# Altium footprint library LGA_GE310.PcbLib: 1 footprints
Each footprint in its own frame and in the unit in brackets; x right, y up, seen from the top. Pads: shape width x height; smd on the part's side, far side on the other; paste and mask are expansions set on the pad; w line width, h text height; cw(c..) or ccw(c..) is an arc to the next point about the centre after c.
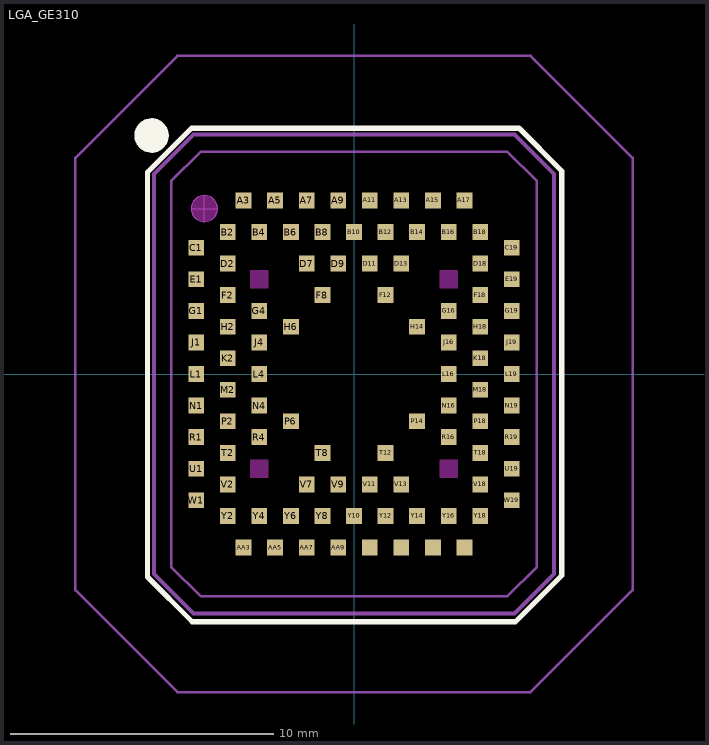
[diagram p0: the footprint, top view; thin cyan lines are the x and y axes]

## LGA_GE310 [mm] "GE310-GNSS LGA 18.20 x 15.20 mm"
height 2.6
pads (94):
  rect 0.6x0.6 smd: A3(-4.2,6.6) A5(-3,6.6) A7(-1.8,6.6) A9(-0.6,6.6) A11(0.6,6.6) A13(1.8,6.6) A15(3,6.6) A17(4.2,6.6) AA3(-4.2,-6.6) AA5(-3,-6.6) AA7(-1.8,-6.6) AA9(-0.6,-6.6) AA11(0.6,-6.6) AA13(1.8,-6.6) AA15(3,-6.6) AA17(4.2,-6.6) B2(-4.8,5.4) B4(-3.6,5.4) B6(-2.4,5.4) B8(-1.2,5.4) B10(0,5.4) B12(1.2,5.4) B14(2.4,5.4) B16(3.6,5.4) B18(4.8,5.4) C1(-6,4.8) C19(6,4.8) D2(-4.8,4.2) D7(-1.8,4.2) D9(-0.6,4.2) D11(0.6,4.2) D13(1.8,4.2) D18(4.8,4.2) E1(-6,3.6) E19(6,3.6) F2(-4.8,3) F8(-1.2,3) F12(1.2,3) F18(4.8,3) G1(-6,2.4) G4(-3.6,2.4) G16(3.6,2.4) G19(6,2.4) H2(-4.8,1.8) H6(-2.4,1.8) H14(2.4,1.8) H18(4.8,1.8) J1(-6,1.2) J4(-3.6,1.2) J16(3.6,1.2) J19(6,1.2) K2(-4.8,0.6) K18(4.8,0.6) L1(-6,0) L4(-3.6,0) L16(3.6,0) L19(6,0) M2(-4.8,-0.6) M18(4.8,-0.6) N1(-6,-1.2) N4(-3.6,-1.2) N16(3.6,-1.2) N19(6,-1.2) P2(-4.8,-1.8) P6(-2.4,-1.8) P14(2.4,-1.8) P18(4.8,-1.8) R1(-6,-2.4) R4(-3.6,-2.4) R16(3.6,-2.4) R19(6,-2.4) T2(-4.8,-3) T8(-1.2,-3) T12(1.2,-3) T18(4.8,-3) U1(-6,-3.6) U19(6,-3.6) V2(-4.8,-4.2) V7(-1.8,-4.2) V9(-0.6,-4.2) V11(0.6,-4.2) V13(1.8,-4.2) V18(4.8,-4.2) W1(-6,-4.8) W19(6,-4.8) Y2(-4.8,-5.4) Y4(-3.6,-5.4) Y6(-2.4,-5.4) Y8(-1.2,-5.4) Y10(0,-5.4) Y12(1.2,-5.4) Y14(2.4,-5.4) Y16(3.6,-5.4) Y18(4.8,-5.4)
Top Layer keep-out:
  rectangle: -3.95,3.25 -3.25,3.95
  rectangle: 3.25,3.25 3.95,3.95
  rectangle: 3.25,-3.95 3.95,-3.25
  rectangle: -3.95,-3.95 -3.25,-3.25
  region: -6.19,6.29 -6.19,6.389 -6.114,6.573 -5.973,6.714 -5.789,6.79 -5.69,6.79 -5.591,6.79 -5.407,6.714 -5.266,6.573 -5.19,6.389 -5.19,6.29 -5.19,6.191 -5.266,6.007 -5.407,5.866 -5.591,5.79 -5.69,5.79 -5.789,5.79 -5.973,5.866 -6.114,6.007 -6.19,6.191
Top Overlay:
  circle w0.254: c-7.7,9.07 r0.53
  region: -8.139,9.431 -7.94,9.63 -7.46,9.63 -7.17,9.34 -7.17,8.81 -7.43,8.55 -7.97,8.55 -8.23,8.81 -8.23,9.221
  lines w0.2: -7.85,-7.72 -7.85,7.67 -6.17,9.35 6.27,9.35 7.9,7.72 7.9,-7.66 6.14,-9.42 -6.15,-9.42 -7.85,-7.72
Keep-Out Layer:
  region: -6,6.68
Mechanical 1:
  circle w0.01: c-5.69,6.29 r0.5
  lines w0.01: -6.19,6.29 -5.69,6.29 ; -5.69,5.79 -5.69,6.29 ; -5.69,6.79 -5.69,6.29 ; -5.19,6.29 -5.69,6.29
  lines w0.1: -6.95,-7.331 -6.95,7.331 -5.831,8.45 0,8.45 5.831,8.45 6.95,7.331 6.95,-7.331 5.831,-8.45 -5.831,-8.45 -6.95,-7.331
  lines w0.15: -7.6,-7.6 -6.1,-9.1 6.1,-9.1 7.6,-7.6 7.6,7.6 6.1,9.1 -6.1,9.1 -7.6,7.6 -7.6,-7.6
  text "1" at -6.14,7.06 h0.5
  text "A" at -6.73,6.38 h0.5
Mechanical 15:
  lines w0.1: -10.6,-8.221 -6.721,-12.1 6.721,-12.1 10.6,-8.221 10.6,8.221 6.721,12.1 -6.721,12.1 -10.6,8.221 -10.6,-8.221
3D body: height 0.6, standoff 0.01, extent -7.6,-9.1 7.6,9.1
3D body: height 2.09, standoff 1.99, extent -6.188,5.791 -5.192,6.789